# Altium footprint library gini_base_pcb.PCBLIB: 175 footprints (part 6 of 11)
Each footprint in its own frame and in the unit in brackets; x right, y up, seen from the top. Pads: shape width x height; smd on the part's side, far side on the other; paste and mask are expansions set on the pad; w line width, h text height; cw(c..) or ccw(c..) is an arc to the next point about the centre after c.
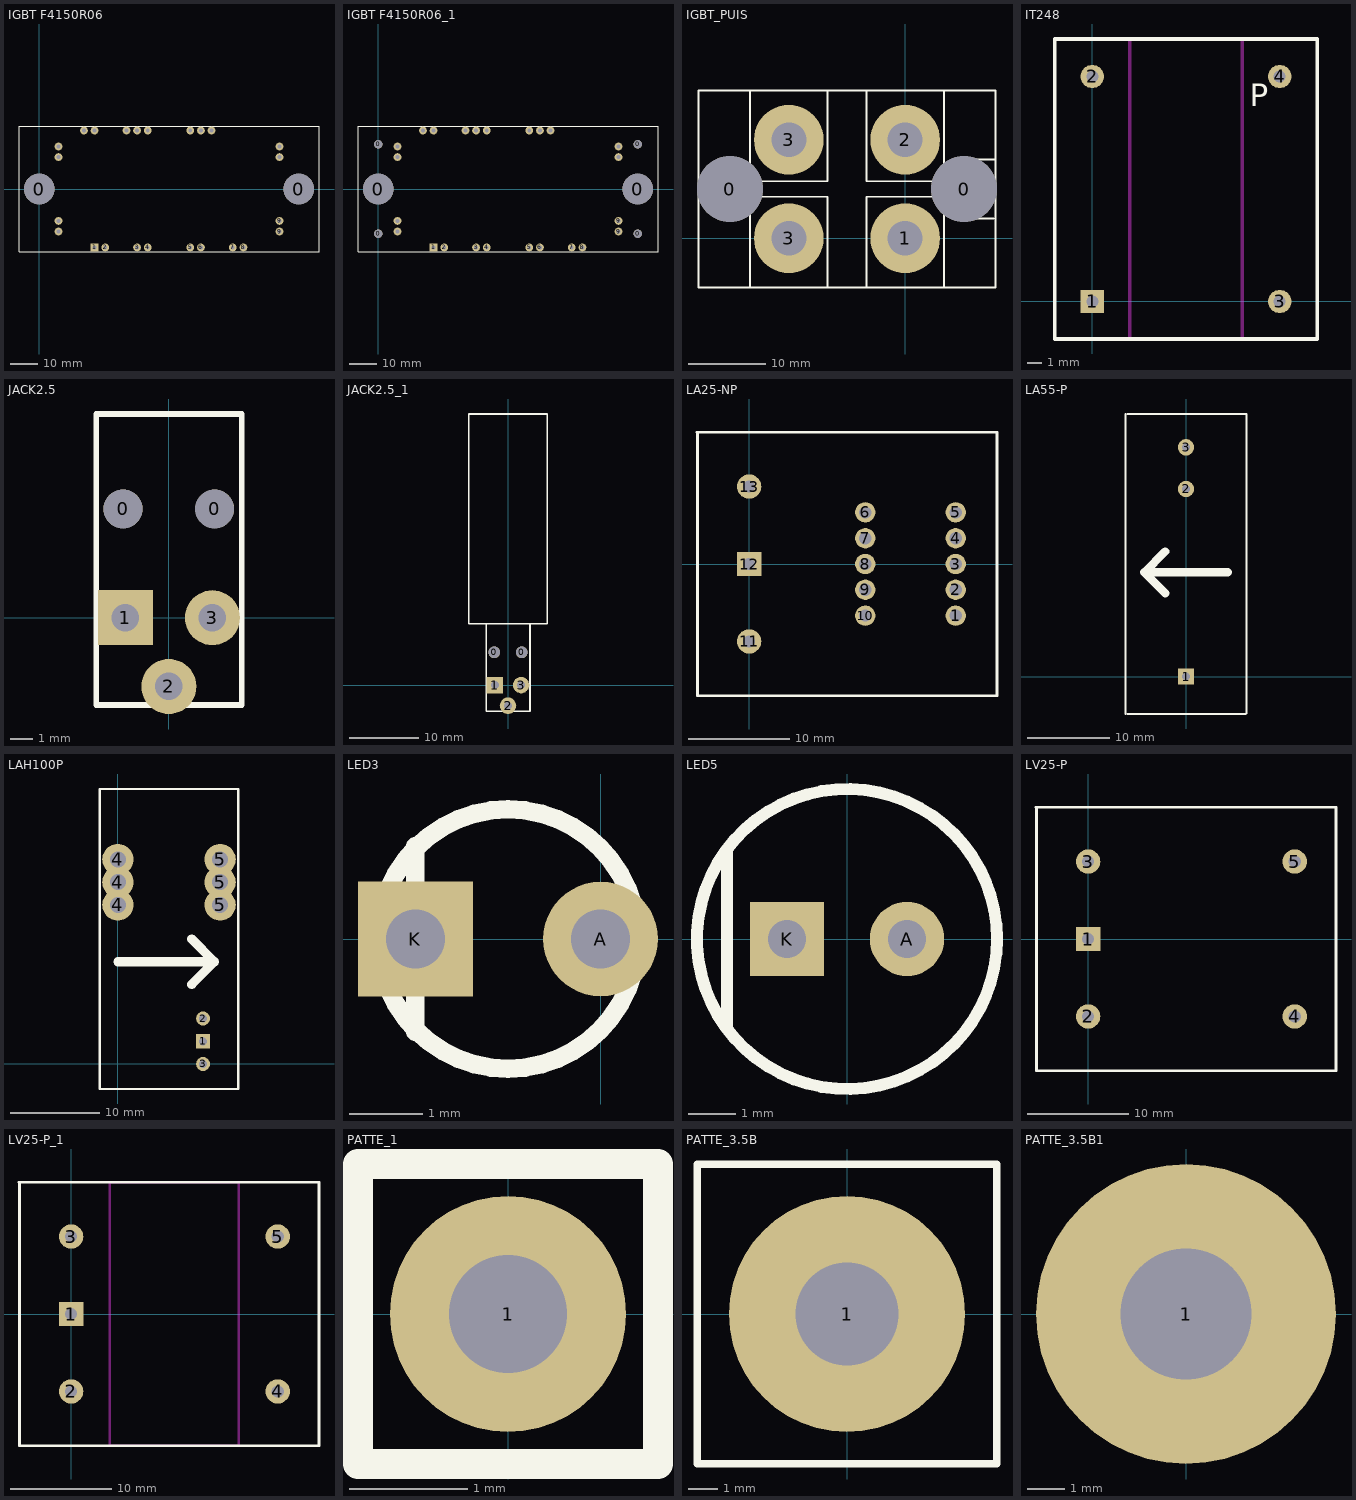
[diagram p5: the footprints below, top view; thin cyan lines are the x and y axes]

## IGBT F4150R06 [mm]
pads (26):
  round 11 hole 11: 0(0,0) 0(93,0)
  rect 2.8x2.8 hole 1.4: 1(19.83,-20.95)
  round 2.8 hole 1.4: 2(23.64,-20.95) 3(35.07,-20.95) 4(38.88,-20.95) 5(54.12,-20.95) 6(57.93,-20.95) 7(69.36,-20.95) 8(73.17,-20.95) 9(86.1,-15.24) 9(86.1,-11.43) 11(86.1,11.43) 11(86.1,15.24) 13(54.12,20.95) 13(57.93,20.95) 13(61.74,20.95) 16(31.26,20.95) 16(35.07,20.95) 16(38.88,20.95) 19(19.83,20.95) 20(16.02,20.95) 21(6.9,11.43) 21(6.9,15.24) 23(6.9,-15.24) 23(6.9,-11.43)
TopOverlay:
  lines w0.254: -7.25,-22.5 100.25,-22.5 100.25,22.5 -7.25,22.5 -7.25,-22.5

## IGBT F4150R06_1 [mm]
pads (30):
  round 3 hole 3: 0(0,-16) 0(0,16) 0(93,-16) 0(93,16)
  round 11 hole 11: 0(0,0) 0(93,0)
  rect 2.8x2.8 hole 1.4: 1(19.83,-20.95)
  round 2.8 hole 1.4: 2(23.64,-20.95) 3(35.07,-20.95) 4(38.88,-20.95) 5(54.12,-20.95) 6(57.93,-20.95) 7(69.36,-20.95) 8(73.17,-20.95) 9(86.1,-15.24) 9(86.1,-11.43) 11(86.1,11.43) 11(86.1,15.24) 13(54.12,20.95) 13(57.93,20.95) 13(61.74,20.95) 16(31.26,20.95) 16(35.07,20.95) 16(38.88,20.95) 19(19.83,20.95) 20(16.02,20.95) 21(6.9,11.43) 21(6.9,15.24) 23(6.9,-15.24) 23(6.9,-11.43)
TopOverlay:
  lines w0.254: -7.25,-22.5 -7.25,22.5 100.25,22.5 100.25,-22.5 -7.25,-22.5

## IGBT_PUIS [mm]
pads (6):
  round 8.5 hole 8.5: 0(-22.6,6.35) 0(7.6,6.35)
  round 9 hole 4.5: 1(0,0) 2(0,12.7) 3(-15,0) 3(-15,12.7)
TopOverlay:
  lines w0.254: -20.012,18.35 -20.012,18.85 ; -20,-6.15 -20,-5.65 -20,5.35 -15,5.35 -10,5.35 -10,-5.65 -10,-6.15 ; -20,18.35 -20,7.35 -15,7.35 -12,7.35 -10,7.35 -10,18.35 -10,19.05 ; -5,-6.35 -5,-5.65 -5,5.35 0,5.35 5,5.35 5,-5.65 5,-6.15 ; -5,17.85 -5,19.05 ; -5,18.35 -5,7.35 0,7.35 5,7.35 5,18.35 5,18.85 ; 7.62,2.54 11.43,2.54 ; 7.86,10.16 11.67,10.16 ; -26.684,-6.35 11.67,-6.35 11.67,19.05 -26.684,19.05 -26.684,-6.35

## IT248 [mil]
pads (4):
  rect 62x62 hole 32: 1(0,0)
  round 62 hole 32: 2(0,600) 3(500,0) 4(500,600)
TopOverlay:
  lines w10: -100,-100 600,-100 600,700 -100,700 -100,-100
  text "P" at 420,520 h60
KeepOutLayer:
  lines w10: 100,-100 400,-100 400,700 100,700 100,-100

## JACK2.5 [mm]
pads (5):
  round 1.7 hole 1.7: 0(-2,4.75) 0(2,4.75)
  rect 2.4x2.4 hole 1.2: 1(-1.9,0)
  round 2.4 hole 1.2: 2(0,-3) 3(1.9,0)
TopOverlay:
  lines w0.254: -3.17,-3.81 -3.17,8.89 3.18,8.89 3.18,-3.81 -3.17,-3.81

## JACK2.5_1 [mm]
pads (5):
  round 1.7 hole 1.7: 0(-2,4.75) 0(2,4.75)
  rect 2.4x2.4 hole 1.2: 1(-1.9,0)
  round 2.4 hole 1.2: 2(0,-3) 3(1.9,0)
TopOverlay:
  lines w0.254: -5.715,8.89 -5.715,39.37 5.715,39.37 5.715,8.89 -5.715,8.89 ; -3.17,-3.81 -3.17,8.89 3.18,8.89 3.18,-3.81 -3.17,-3.81

## LA25-NP [mm]
pads (13):
  round 2 hole 1.2: 1(20.32,-5.08) 2(20.32,-2.54) 3(20.32,0) 4(20.32,2.54) 5(20.32,5.08) 6(11.43,5.08) 7(11.43,2.54) 8(11.43,0) 9(11.43,-2.54) 10(11.43,-5.08)
  round 2.4 hole 1.2: 11(0,-7.62) 13(0,7.62)
  rect 2.4x2.4 hole 1.2: 12(0,0)
TopOverlay:
  lines w0.254: -5.126,12.954 20.574,12.954 24.384,12.954 24.384,-12.446 24.384,-12.954 23.876,-12.954 -5.08,-12.954 -5.08,12.954

## LA55-P [mm]
pads (3):
  rect 2x2 hole 1: 1(0,0)
  round 2 hole 1: 2(0,22.86) 3(0,27.94)
TopOverlay:
  lines w0.254: -7.366,-4.572 -7.366,32.004 ; -7.112,-4.572 7.262,-4.572 ; -7.112,32.004 7.338,32.004 ; 7.366,-4.496 7.366,32.004
  lines w1.016: -2.54,10.16 -5.08,12.7 ; -2.54,15.24 -5.08,12.7 ; 5.08,12.7 -5.08,12.7

## LAH100P [mm]
pads (9):
  rect 1.575x1.575 hole 0.889: 1(9.525,2.54)
  round 1.575 hole 0.889: 2(9.525,5.08) 3(9.525,0)
  round 3.5 hole 1.8: 4(0,17.78) 4(0,20.32) 4(0,22.86) 5(11.43,17.78) 5(11.43,20.32) 5(11.43,22.86)
TopOverlay:
  lines w0.254: -2.032,30.734 -2.032,-2.794 13.462,-2.794 13.462,30.734 -2.004,30.734
  lines w1.016: 0,11.43 10.16,11.43 ; 8.255,8.89 10.795,11.43 8.255,13.97

## LED3 [mil]
pads (2):
  round 62 hole 32: A(0,0)
  rect 62x62 hole 32: K(-100,0)
TopOverlay:
  circle w10: c-50,0 r70
  lines w10: -100,-50 -100,50
3D body: height 217.04, standoff -97.93, extent -113.94,-64.9 15.99,64.58

## LED5 [mil]
pads (2):
  round 62 hole 32: A(50,0)
  rect 62x62 hole 32: K(-50,0)
TopOverlay:
  circle w10: c0,0 r125
  lines w10: -100,-75 -100,75

## LV25-P [mm]
pads (5):
  rect 2.4x2.4 hole 1.2: 1(0,0)
  round 2.4 hole 1.2: 2(0,-7.62) 3(0,7.62) 4(20.32,-7.62) 5(20.32,7.62)
TopOverlay:
  lines w0.254: -5.126,12.954 20.574,12.954 24.384,12.954 24.384,-12.446 24.384,-12.954 23.876,-12.954 -5.08,-12.954 -5.08,12.954

## LV25-P_1 [mm]
pads (5):
  rect 2.4x2.4 hole 1.2: 1(0,0)
  round 2.4 hole 1.2: 2(0,-7.62) 3(0,7.62) 4(20.32,-7.62) 5(20.32,7.62)
TopLayer keep-out:
  lines w0.254: 3.81,-12.954 16.51,-12.954 16.51,12.954 3.81,12.954 3.81,-12.954
TopOverlay:
  lines w0.254: -5.126,12.954 20.574,12.954 24.384,12.954 24.384,-12.446 24.384,-12.954 23.876,-12.954 -5.08,-12.954 -5.08,12.954

## PATTE_1 [mm]
pads (1):
  round 2 hole 1: 1(0,0)
TopOverlay:
  lines w0.254: -1.27,-1.27 -1.27,1.27 1.27,1.27 1.27,-1.27 -1.27,-1.27

## PATTE_3.5B [mm]
pads (1):
  round 8 hole 3.5: 1(0,0)
TopOverlay:
  lines w0.254: -5.08,-5.08 5.08,-5.08 5.08,5.08 -5.08,5.08 -5.08,-5.08

## PATTE_3.5B1 [mm]
pads (1):
  round 8 hole 3.5: 1(0,0)